# Altium schematic symbol library SCH - POWER - SWITCHMODE - TI TPS562202DRL.SchLib: 1 symbol
Pins are listed as number, name and electrical type; pins without a type are passive.

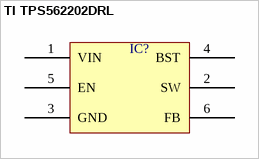
[diagram p0: symbol TI TPS562202DRL]

## TI TPS562202DRL
designator IC?  (value not drawn)
pins: 1 VIN, 2 SW, 3 GND, 4 BST, 5 EN, 6 FB